# Altium footprint library OASIS_COMPONENTS_FOOTPRINTS.PcbLib: 59 footprints (part 2 of 4)
Each footprint in its own frame and in the unit in brackets; x right, y up, seen from the top. Pads: shape width x height; smd on the part's side, far side on the other; paste and mask are expansions set on the pad; w line width, h text height; cw(c..) or ccw(c..) is an arc to the next point about the centre after c.
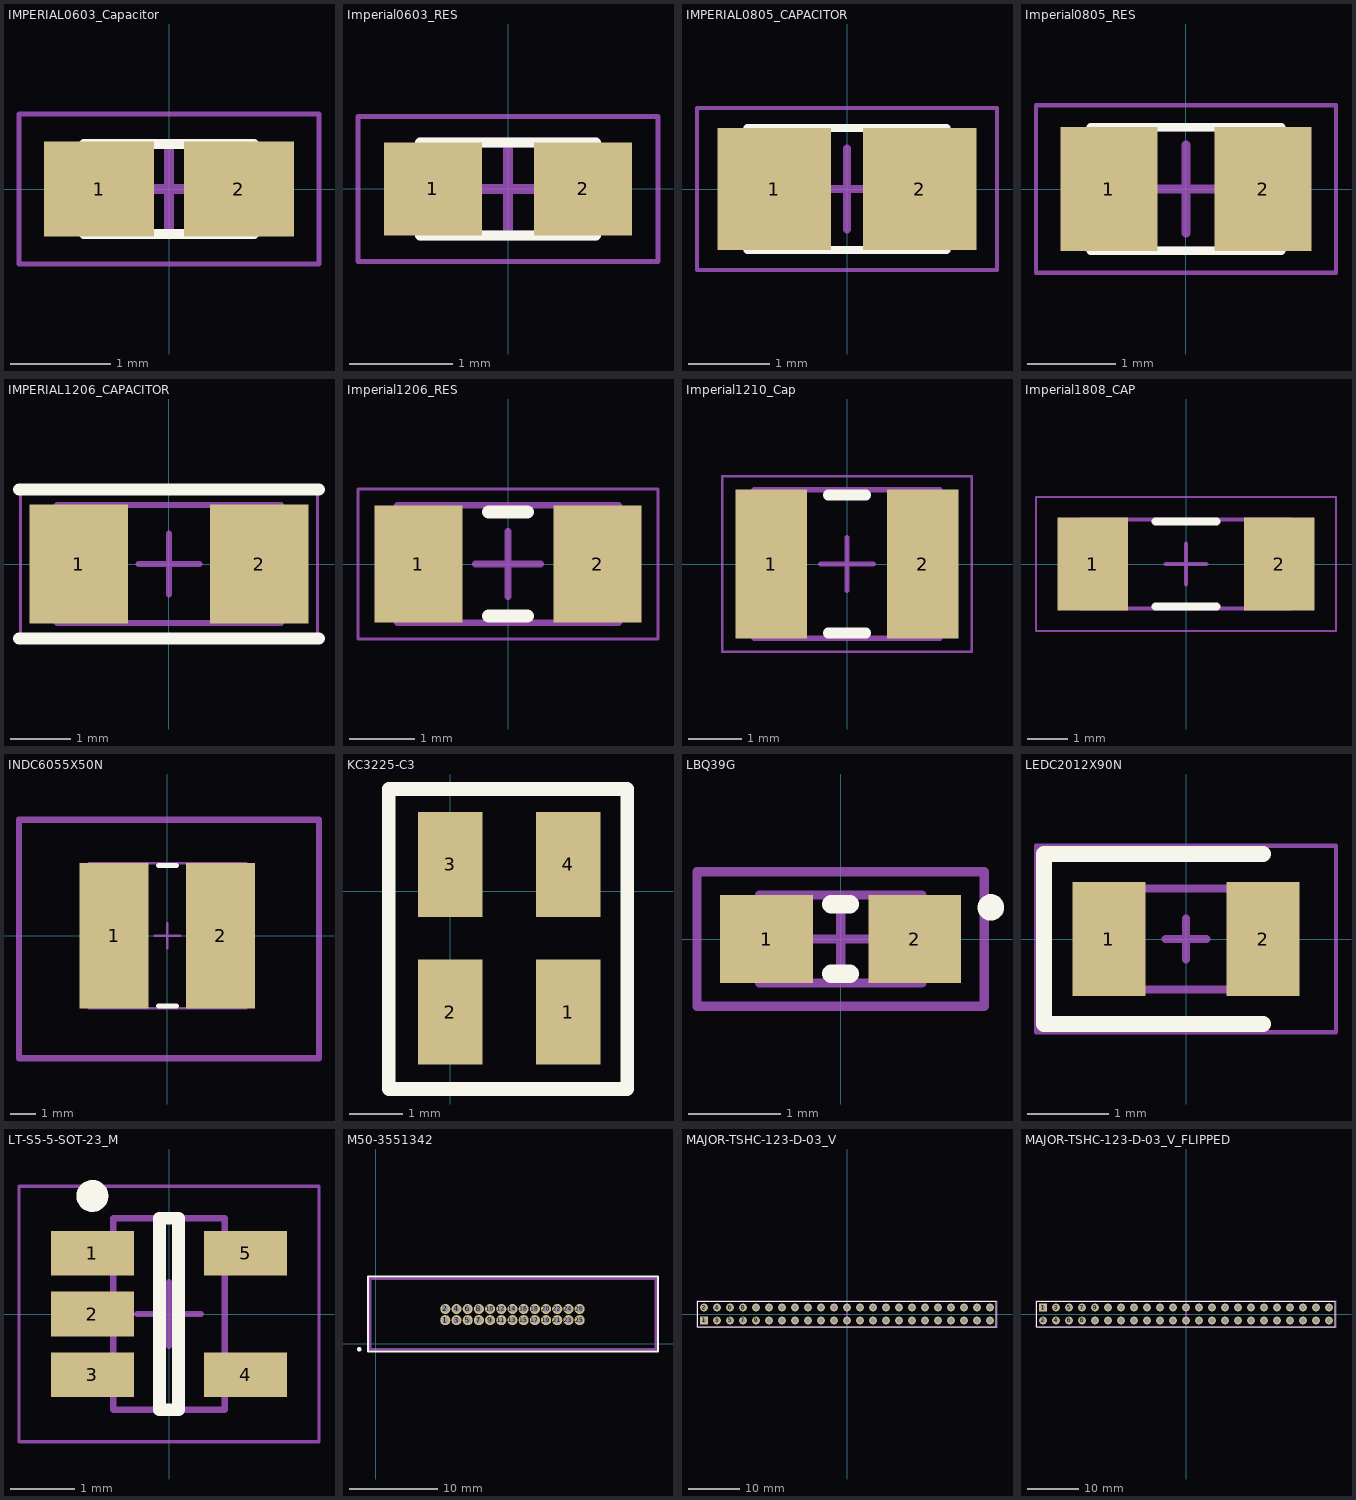
[diagram p1: the footprints below, top view; thin cyan lines are the x and y axes]

## IMPERIAL0603_Capacitor [mm]
height 0.5
pads (2):
  rect 1.1x0.95 smd: 1(-0.7,0) 2(0.7,0)
Top Overlay:
  lines w0.1: -0.85,-0.45 0.85,-0.45 ; -0.85,0.45 0.85,0.45
Courtyard:
  lines w0.05: -1.5,-0.75 1.5,-0.75 1.5,0.75 -1.5,0.75 -1.5,-0.75
Component Center:
  lines w0.1: -0.45,0 0.45,0 ; 0,-0.45 0,0.45
Component Outline:
  lines w0.1: -0.85,-0.45 0.85,-0.45 0.85,0.45 -0.85,0.45 -0.85,-0.45
3D body "IMPERIAL0603_Capacitor.step": height 0.5, standoff 0, extent -0.85,-0.45 0.85,0.45

## Imperial0603_RES [mm] "Imperial 0603 resistor footprint"
height 0.55
pads (2):
  rect 0.95x0.9 smd: 1(-0.725,0) 2(0.725,0)
Top Overlay:
  lines w0.1: -0.85,-0.45 0.85,-0.45 ; -0.85,0.45 0.85,0.45
Courtyard:
  lines w0.05: -1.45,-0.7 -1.45,0.7 1.45,0.7 1.45,-0.7 -1.45,-0.7
Component Center:
  lines w0.1: -0.45,0 0.45,0 ; 0,-0.45 0,0.45
Component Outline:
  lines w0.1: -0.85,-0.45 -0.85,0.45 0.85,0.45 0.85,-0.45 -0.85,-0.45
3D body "R_Imperial0603.step": height 0.55, standoff 0, extent -0.85,-0.45 0.85,0.45

## IMPERIAL0805_CAPACITOR [mm] "Chip Capacitor, 2-Leads, Body 2.13x1.27mm, IPC Medium Density"
height 0.45
pads (2):
  rect 1.4x1.5 smd: 1(-0.9,0) 2(0.9,0)
Top Overlay:
  lines w0.1: -1.225,-0.75 1.225,-0.75 ; -1.225,0.75 1.225,0.75
Courtyard:
  lines w0.05: -1.85,-1 1.85,-1 1.85,1 -1.85,1 -1.85,-1
Component Center:
  lines w0.1: -0.5,0 0.5,0 ; 0,-0.5 0,0.5
Component Outline:
  lines w0.1: -1.225,-0.75 1.225,-0.75 1.225,0.75 -1.225,0.75 -1.225,-0.75
3D body "IMPERIAL0805_CAPACITOR.step": height 0.45, standoff 0, extent -1.225,-0.75 1.225,0.75

## Imperial0805_RES [mm] "Imperial 0805 Resistor"
height 0.6
pads (2):
  rect 1.1x1.4 smd: 1(-0.875,0) 2(0.875,0)
Top Overlay:
  lines w0.1: -1.075,-0.7 1.075,-0.7 ; -1.075,0.7 1.075,0.7
Courtyard:
  lines w0.05: -1.7,-0.95 1.7,-0.95 1.7,0.95 -1.7,0.95 -1.7,-0.95
Component Center:
  lines w0.1: -0.5,0 0.5,0 ; 0,-0.5 0,0.5
Component Outline:
  lines w0.1: -1.075,-0.7 1.075,-0.7 1.075,0.7 -1.075,0.7 -1.075,-0.7
3D body "RESC2012X06N.step": height 0.6, standoff 0, extent -1.075,-0.7 1.075,0.7

## IMPERIAL1206_CAPACITOR [mm]
height 1.6
pads (2):
  rect 1.62x1.96 smd: 1(-1.49,0) 2(1.49,0)
Top Overlay:
  lines w0.2: -2.475,-1.23 2.475,-1.23 ; -2.475,1.23 2.475,1.23
Courtyard:
  lines w0.05: -2.45,-1.25 -2.45,1.25 2.45,1.25 2.45,-1.25 -2.45,-1.25
Component Center:
  lines w0.1: -0.5,0 0.5,0 ; 0,-0.5 0,0.5
Dimensions:
  lines w0.1: -1.85,-0.975 -1.85,0.975 ; 1.85,-0.975 1.85,0.975
Component Outline:
  lines w0.1: -1.85,-0.975 1.85,-0.975 ; -1.85,0.975 1.85,0.975
3D body "IMPERIAL1206_CAPACITOR.step": height 1.6, standoff 0, extent -1.85,-0.975 1.85,0.975

## Imperial1206_RES [mm] "Imperial 1206 Resistor"
height 0.7
pads (2):
  rect 1.35x1.8 smd: 1(-1.375,0) 2(1.375,0)
Top Overlay:
  lines w0.2: -0.3,-0.8 0.3,-0.8 ; -0.3,0.8 0.3,0.8
Courtyard:
  lines w0.05: -2.3,-1.15 2.3,-1.15 2.3,1.15 -2.3,1.15 -2.3,-1.15
Component Center:
  lines w0.1: -0.5,0 0.5,0 ; 0,-0.5 0,0.5
Component Outline:
  lines w0.1: -1.7,-0.9 1.7,-0.9 1.7,0.9 -1.7,0.9 -1.7,-0.9
3D body "RESC3216X07N.step": height 0.7, standoff 0, extent -1.7,-0.9 1.7,0.9

## Imperial1210_Cap [mm] "Imperial 1210 MLCC Chip capacitor"
height 2.8
pads (2):
  rect 1.35x2.8 smd: 1(-1.425,0) 2(1.425,0)
Top Overlay:
  lines w0.2: -0.35,-1.3 0.35,-1.3 ; -0.35,1.3 0.35,1.3
Courtyard:
  lines w0.05: -2.35,-1.65 -2.35,1.65 2.35,1.65 2.35,-1.65 -2.35,-1.65
Component Center:
  lines w0.1: -0.5,0 0.5,0 ; 0,-0.5 0,0.5
Component Outline:
  lines w0.1: -1.75,-1.4 -1.75,1.4 1.75,1.4 1.75,-1.4 -1.75,-1.4
3D body "Imperial1210_Cap.step": height 2.8, standoff 0, extent -1.75,-1.4 1.75,1.4

## Imperial1808_CAP [mm] "Imperial 1808 chip capacitor"
height 2.15
pads (2):
  rect 1.75x2.3 smd: 1(-2.3,0) 2(2.3,0)
Top Overlay:
  lines w0.2: -0.75,-1.05 0.75,-1.05 ; -0.75,1.05 0.75,1.05
Courtyard:
  lines w0.05: -3.7,-1.65 -3.7,1.65 3.7,1.65 3.7,-1.65 -3.7,-1.65
Component Center:
  lines w0.1: -0.5,0 0.5,0 ; 0,-0.5 0,0.5
Component Outline:
  lines w0.1: -2.6,-1.1 -2.6,1.1 2.6,1.1 2.6,-1.1 -2.6,-1.1
3D body "Imperial1808_CAP.step": height 2.15, standoff 0, extent -2.6,-1.1 2.6,1.1

## INDC6055X50N [mm] "Chip Inductor, 2-Leads, Body 6.00x5.50mm, IPC Medium Density"
height 5.05
pads (2):
  rect 2.72x5.72 smd: 1(-2.095,0) 2(2.095,0)
Top Overlay:
  lines w0.2: -0.35,-2.76 0.35,-2.76 ; -0.35,2.76 0.35,2.76
Courtyard:
  lines w0.254: -5.842,-4.826 5.969,-4.826 5.969,4.572 3.048,4.572 -5.842,4.572 -5.842,-2.921 -5.842,-4.826
Component Center:
  lines w0.1: -0.5,0 0.5,0 ; 0,-0.5 0,0.5
Component Outline:
  lines w0.1: -3.1,-2.85 -3.1,2.85 3.1,2.85 3.1,-2.85 -3.1,-2.85
3D body "INDC6055X50N.step": height 5.05, standoff 0, extent -3.1,-2.85 3.1,2.85

## KC3225-C3 [mm] "Crystal Oscillator for USB"
pads (4):
  rect 1.2x1.95 smd: 1(2.2,-2.25) 2(0,-2.25) 3(0,0.5) 4(2.2,0.5)
Top Overlay:
  lines w0.254: -1.143,-3.683 3.302,-3.683 3.302,1.905 -1.143,1.905 -1.143,-3.683
  text "." at -1.778,-3.429 h1.52
3D body "CrystalOscillator_KC3225-C3_3p2mm.step": height 0.9, standoff 0.01, extent -0.457,-2.119 2.743,0.381

## LBQ39G [mm] "Osram Chip LED"
pads (2):
  rect 1x0.95 smd: 1(-0.8,0) 2(0.8,0)
Top Overlay:
  circle w0.152: c1.62,0.341 r0.066
  lines w0.2: -0.1,-0.375 0.1,-0.375 ; -0.1,0.375 0.1,0.375
Courtyard:
  lines w0.1: -1.55,-0.725 1.55,-0.725 1.55,0.725 -1.55,0.725 -1.55,-0.725
Component Center:
  lines w0.1: -0.475,0 0.475,0 ; 0,-0.475 0,0.475
Component Outline:
  lines w0.1: -0.875,-0.475 -0.875,0.475 0.875,0.475 0.875,-0.475 -0.875,-0.475
3D body "User Library-LTST-C190TBKT.STEP": height 0.9, standoff 0, extent -0.828,-0.449 0.872,0.451

## LEDC2012X90N [mm]
pads (2):
  rect 0.9x1.4 smd: 1(-0.95,0) 2(0.95,0)
Top Overlay:
  lines w0.2: 0.95,-1.05 -1.75,-1.05 -1.75,1.05 0.95,1.05
Courtyard:
  lines w0.05: -1.85,-1.15 1.85,-1.15 1.85,1.15 -1.85,1.15 -1.85,-1.15
Component Center:
  lines w0.1: -0.254,0 0.254,0 ; 0,0 0,-0.254 0,0.254
Component Outline:
  lines w0.1: -1,0.208 -0.583,0.625 ; -1,-0.625 -1,0.625 1,0.625 1,-0.625 -1,-0.625
3D body "SML-211DTT86.stp": height 0.8, standoff 0, extent -1,-0.625 1,0.625

## LT-S5-5-SOT-23_M [mm] "SOT23, 5-Leads, Body 3x1.75mm, Pitch 0.95mm, IPC Low Density"
height 1.45
pads (5):
  rect 1.3x0.7 smd: 1(-1.2,0.95) 2(-1.2,0) 3(-1.2,-0.95) 4(1.2,-0.95) 5(1.2,0.95)
Top Overlay:
  circle w0.25: c-1.2,1.85 r0.125
  lines w0.2: -0.15,-1.5 -0.15,1.5 0.15,1.5 0.15,-1.5 -0.15,-1.5
Courtyard:
  lines w0.05: -2.35,-2 -2.35,2 2.35,2 2.35,-2 -2.35,-2
Component Center:
  lines w0.1: -0.5,0 0.5,0 ; 0,-0.5 0,0.5
Component Outline:
  lines w0.1: -0.875,-1.5 -0.875,1.5 0.875,1.5 0.875,-1.5 -0.875,-1.5
3D body: height 1.45, standoff 0, extent -0.875,-1.5 0.875,1.5

## M50-3551342 [mm] "EJT 13x2 socket"
pads (26):
  round 1.15 hole 0.75: 1(7.874,2.667) 2(7.874,3.937)
  round 1.15 hole 0.75 paste+0: 3(9.144,2.667) 4(9.144,3.937) 5(10.414,2.667) 6(10.414,3.937) 7(11.684,2.667) 8(11.684,3.937) 9(12.954,2.667) 10(12.954,3.937) 11(14.224,2.667) 12(14.224,3.937) 13(15.494,2.667) 14(15.494,3.937) 15(16.764,2.667) 16(16.764,3.937) 17(18.034,2.667) 18(18.034,3.937) 19(19.304,2.667) 20(19.304,3.937) 21(20.574,2.667) 22(20.574,3.937) 23(21.844,2.667) 24(21.844,3.937) 25(23.114,2.667) 26(23.114,3.937)
Top Overlay:
  circle w0.254: c-1.905,-0.635 r0.127
  lines w0.254: -0.889,-0.889 -0.889,7.62 32.004,7.62 32.004,-0.889 -0.889,-0.889
Courtyard:
  lines w0.254: -0.635,-0.635 -0.635,7.366 31.75,7.366 31.75,-0.635 -0.635,-0.635
3D body "m50-3551342_asm.stp": height 11.37, standoff -2.65, extent 0,0.01 30.99,6.68

## MAJOR-TSHC-123-D-03_V [mm] "CONN, 46-Leads, Body 58.42x5mm, Pitch 2.54mm"
height 6.22
pads (46):
  rect 1.55x1.55 hole 1.02 paste+0: 1(-27.94,-1.27)
  round 1.55 hole 1.02 paste+0: 2(-27.94,1.27) 3(-25.4,-1.27) 4(-25.4,1.27) 5(-22.86,-1.27) 6(-22.86,1.27) 7(-20.32,-1.27) 8(-20.32,1.27) 9(-17.78,-1.27) 10(-17.78,1.27) 11(-15.24,-1.27) 12(-15.24,1.27) 13(-12.7,-1.27) 14(-12.7,1.27) 15(-10.16,-1.27) 16(-10.16,1.27) 17(-7.62,-1.27) 18(-7.62,1.27) 19(-5.08,-1.27) 20(-5.08,1.27) 21(-2.54,-1.27) 22(-2.54,1.27) 23(0,-1.27) 24(0,1.27) 25(2.54,-1.27) 26(2.54,1.27) 27(5.08,-1.27) 28(5.08,1.27) 29(7.62,-1.27) 30(7.62,1.27) 31(10.16,-1.27) 32(10.16,1.27) 33(12.7,-1.27) 34(12.7,1.27) 35(15.24,-1.27) 36(15.24,1.27) 37(17.78,-1.27) 38(17.78,1.27) 39(20.32,-1.27) 40(20.32,1.27) 41(22.86,-1.27) 42(22.86,1.27) 43(25.4,-1.27) 44(25.4,1.27) 45(27.94,-1.27) 46(27.94,1.27)
Top Overlay:
  lines w0.2: -29.21,-2.5 -29.21,2.5 29.21,2.5 29.21,-2.5 -29.21,-2.5
Component Center:
  lines w0.1: -0.5,0 0.5,0 ; 0,-0.5 0,0.5
Component Outline:
  lines w0.05: -29.31,-2.6 29.31,-2.6 29.31,2.6 -29.31,2.6 -29.31,-2.6
3D body: height 8.51, standoff -2.29, extent 27.62,0.95 28.26,1.59
3D body: height 8.51, standoff -2.29, extent 25.08,0.95 25.72,1.59
3D body: height 8.51, standoff -2.29, extent 22.54,0.95 23.18,1.59
3D body: height 8.51, standoff -2.29, extent 20,0.95 20.64,1.59
3D body: height 8.51, standoff -2.29, extent 17.46,0.95 18.1,1.59
3D body: height 8.51, standoff -2.29, extent 14.92,0.95 15.56,1.59
3D body: height 8.51, standoff -2.29, extent 12.38,0.95 13.02,1.59
3D body: height 8.51, standoff -2.29, extent 9.84,0.95 10.48,1.59
3D body: height 8.51, standoff -2.29, extent 7.3,0.95 7.94,1.59
3D body: height 8.51, standoff -2.29, extent 4.76,0.95 5.4,1.59
3D body: height 8.51, standoff -2.29, extent 2.22,0.95 2.86,1.59
3D body: height 8.51, standoff -2.29, extent -0.32,0.95 0.32,1.59
3D body: height 8.51, standoff -2.29, extent -2.86,0.95 -2.22,1.59
3D body: height 8.51, standoff -2.29, extent -5.4,0.95 -4.76,1.59
3D body: height 8.51, standoff -2.29, extent -7.94,0.95 -7.3,1.59
3D body: height 8.51, standoff -2.29, extent -10.48,0.95 -9.84,1.59
3D body: height 8.51, standoff -2.29, extent -13.02,0.95 -12.38,1.59
3D body: height 8.51, standoff -2.29, extent -15.56,0.95 -14.92,1.59
3D body: height 8.51, standoff -2.29, extent -18.1,0.95 -17.46,1.59
3D body: height 8.51, standoff -2.29, extent -20.64,0.95 -20,1.59
3D body: height 8.51, standoff -2.29, extent -23.18,0.95 -22.54,1.59
3D body: height 8.51, standoff -2.29, extent -25.72,0.95 -25.08,1.59
3D body: height 8.51, standoff -2.29, extent 27.62,-1.59 28.26,-0.95
3D body: height 8.51, standoff -2.29, extent 25.08,-1.59 25.72,-0.95
3D body: height 8.51, standoff -2.29, extent 22.54,-1.59 23.18,-0.95
3D body: height 8.51, standoff -2.29, extent 20,-1.59 20.64,-0.95
3D body: height 8.51, standoff -2.29, extent 17.46,-1.59 18.1,-0.95
3D body: height 8.51, standoff -2.29, extent 14.92,-1.59 15.56,-0.95
3D body: height 8.51, standoff -2.29, extent 12.38,-1.59 13.02,-0.95
3D body: height 8.51, standoff -2.29, extent 9.84,-1.59 10.48,-0.95
3D body: height 8.51, standoff -2.29, extent 7.3,-1.59 7.94,-0.95
3D body: height 8.51, standoff -2.29, extent 4.76,-1.59 5.4,-0.95
3D body: height 8.51, standoff -2.29, extent 2.22,-1.59 2.86,-0.95
3D body: height 8.51, standoff -2.29, extent -0.32,-1.59 0.32,-0.95
3D body: height 8.51, standoff -2.29, extent -2.86,-1.59 -2.22,-0.95
3D body: height 8.51, standoff -2.29, extent -5.4,-1.59 -4.76,-0.95
3D body: height 8.51, standoff -2.29, extent -7.94,-1.59 -7.3,-0.95
3D body: height 8.51, standoff -2.29, extent -10.48,-1.59 -9.84,-0.95
3D body: height 8.51, standoff -2.29, extent -13.02,-1.59 -12.38,-0.95
3D body: height 8.51, standoff -2.29, extent -15.56,-1.59 -14.92,-0.95
3D body: height 8.51, standoff -2.29, extent -18.1,-1.59 -17.46,-0.95
3D body: height 8.51, standoff -2.29, extent -20.64,-1.59 -20,-0.95
3D body: height 8.51, standoff -2.29, extent -23.18,-1.59 -22.54,-0.95
3D body: height 8.51, standoff -2.29, extent -25.72,-1.59 -25.08,-0.95
3D body: height 8.51, standoff -2.29, extent -28.26,-1.59 -27.62,-0.95
3D body: height 8.51, standoff -2.29, extent -28.26,0.95 -27.62,1.59
3D body: height 2.54, standoff 0, extent -29.21,-2.5 29.21,2.5

## MAJOR-TSHC-123-D-03_V_FLIPPED [mm] "CONN, 46-Leads, Body 58.42x5mm, Pitch 2.54mm"
height 6.22
pads (46):
  rect 1.55x1.55 hole 1.02 paste+0: 1(-27.94,1.27)
  round 1.55 hole 1.02 paste+0: 2(-27.94,-1.27) 3(-25.4,1.27) 4(-25.4,-1.27) 5(-22.86,1.27) 6(-22.86,-1.27) 7(-20.32,1.27) 8(-20.32,-1.27) 9(-17.78,1.27) 10(-17.78,-1.27) 11(-15.24,1.27) 12(-15.24,-1.27) 13(-12.7,1.27) 14(-12.7,-1.27) 15(-10.16,1.27) 16(-10.16,-1.27) 17(-7.62,1.27) 18(-7.62,-1.27) 19(-5.08,1.27) 20(-5.08,-1.27) 21(-2.54,1.27) 22(-2.54,-1.27) 23(0,1.27) 24(0,-1.27) 25(2.54,1.27) 26(2.54,-1.27) 27(5.08,1.27) 28(5.08,-1.27) 29(7.62,1.27) 30(7.62,-1.27) 31(10.16,1.27) 32(10.16,-1.27) 33(12.7,1.27) 34(12.7,-1.27) 35(15.24,1.27) 36(15.24,-1.27) 37(17.78,1.27) 38(17.78,-1.27) 39(20.32,1.27) 40(20.32,-1.27) 41(22.86,1.27) 42(22.86,-1.27) 43(25.4,1.27) 44(25.4,-1.27) 45(27.94,1.27) 46(27.94,-1.27)
Top Overlay:
  lines w0.2: -29.21,-2.5 -29.21,2.5 29.21,2.5 29.21,-2.5 -29.21,-2.5
Component Center:
  lines w0.1: -0.5,0 0.5,0 ; 0,-0.5 0,0.5
Component Outline:
  lines w0.05: -29.31,-2.6 29.31,-2.6 29.31,2.6 -29.31,2.6 -29.31,-2.6
3D body: height 8.51, standoff -2.29, extent 27.62,-1.59 28.26,-0.95
3D body: height 8.51, standoff -2.29, extent 25.08,-1.59 25.72,-0.95
3D body: height 8.51, standoff -2.29, extent 22.54,-1.59 23.18,-0.95
3D body: height 8.51, standoff -2.29, extent 20,-1.59 20.64,-0.95
3D body: height 8.51, standoff -2.29, extent 17.46,-1.59 18.1,-0.95
3D body: height 8.51, standoff -2.29, extent 14.92,-1.59 15.56,-0.95
3D body: height 8.51, standoff -2.29, extent 12.38,-1.59 13.02,-0.95
3D body: height 8.51, standoff -2.29, extent 9.84,-1.59 10.48,-0.95
3D body: height 8.51, standoff -2.29, extent 7.3,-1.59 7.94,-0.95
3D body: height 8.51, standoff -2.29, extent 4.76,-1.59 5.4,-0.95
3D body: height 8.51, standoff -2.29, extent 2.22,-1.59 2.86,-0.95
3D body: height 8.51, standoff -2.29, extent -0.32,-1.59 0.32,-0.95
3D body: height 8.51, standoff -2.29, extent -2.86,-1.59 -2.22,-0.95
3D body: height 8.51, standoff -2.29, extent -5.4,-1.59 -4.76,-0.95
3D body: height 8.51, standoff -2.29, extent -7.94,-1.59 -7.3,-0.95
3D body: height 8.51, standoff -2.29, extent -10.48,-1.59 -9.84,-0.95
3D body: height 8.51, standoff -2.29, extent -13.02,-1.59 -12.38,-0.95
3D body: height 8.51, standoff -2.29, extent -15.56,-1.59 -14.92,-0.95
3D body: height 8.51, standoff -2.29, extent -18.1,-1.59 -17.46,-0.95
3D body: height 8.51, standoff -2.29, extent -20.64,-1.59 -20,-0.95
3D body: height 8.51, standoff -2.29, extent -23.18,-1.59 -22.54,-0.95
3D body: height 8.51, standoff -2.29, extent -25.72,-1.59 -25.08,-0.95
3D body: height 8.51, standoff -2.29, extent 27.62,0.95 28.26,1.59
3D body: height 8.51, standoff -2.29, extent 25.08,0.95 25.72,1.59
3D body: height 8.51, standoff -2.29, extent 22.54,0.95 23.18,1.59
3D body: height 8.51, standoff -2.29, extent 20,0.95 20.64,1.59
3D body: height 8.51, standoff -2.29, extent 17.46,0.95 18.1,1.59
3D body: height 8.51, standoff -2.29, extent 14.92,0.95 15.56,1.59
3D body: height 8.51, standoff -2.29, extent 12.38,0.95 13.02,1.59
3D body: height 8.51, standoff -2.29, extent 9.84,0.95 10.48,1.59
3D body: height 8.51, standoff -2.29, extent 7.3,0.95 7.94,1.59
3D body: height 8.51, standoff -2.29, extent 4.76,0.95 5.4,1.59
3D body: height 8.51, standoff -2.29, extent 2.22,0.95 2.86,1.59
3D body: height 8.51, standoff -2.29, extent -0.32,0.95 0.32,1.59
3D body: height 8.51, standoff -2.29, extent -2.86,0.95 -2.22,1.59
3D body: height 8.51, standoff -2.29, extent -5.4,0.95 -4.76,1.59
3D body: height 8.51, standoff -2.29, extent -7.94,0.95 -7.3,1.59
3D body: height 8.51, standoff -2.29, extent -10.48,0.95 -9.84,1.59
3D body: height 8.51, standoff -2.29, extent -13.02,0.95 -12.38,1.59
3D body: height 8.51, standoff -2.29, extent -15.56,0.95 -14.92,1.59
3D body: height 8.51, standoff -2.29, extent -18.1,0.95 -17.46,1.59
3D body: height 8.51, standoff -2.29, extent -20.64,0.95 -20,1.59
3D body: height 8.51, standoff -2.29, extent -23.18,0.95 -22.54,1.59
3D body: height 8.51, standoff -2.29, extent -25.72,0.95 -25.08,1.59
3D body: height 8.51, standoff -2.29, extent -28.26,0.95 -27.62,1.59
3D body: height 8.51, standoff -2.29, extent -28.26,-1.59 -27.62,-0.95
3D body: height 2.54, standoff 0, extent -29.21,-2.5 29.21,2.5